# Altium integrated library fydp.IntLib: 10 symbols
Pins are listed as number, name and electrical type; pins without a type are passive.

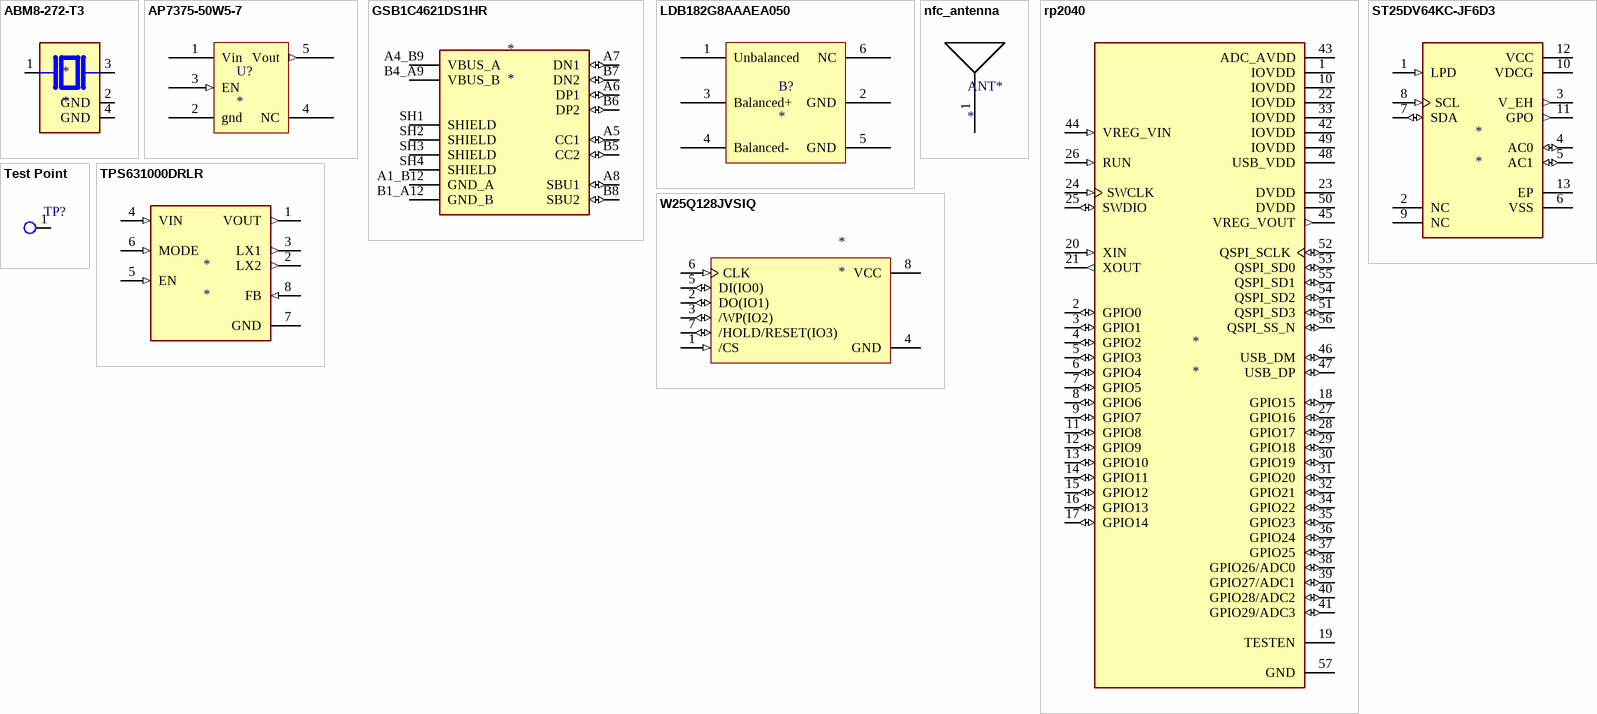
[diagram p0: symbols ABM8-272-T3 to W25Q128JVSIQ]

## ABM8-272-T3
designator *
footprint XTAL_ABM8-272-T3
pins: 1, 2 GND (power), 3, 4 GND (power)

## AP7375-50W5-7
designator U?
footprint DIODES SOT25 (SOT25, 5-Leads, Body 3.00x2.85mm, Pitch 0.95mm, IPC Medium Density)
pins: 1 Vin (power), 2 gnd (power), 3 EN (in), 4 NC, 5 Vout (out)

## GSB1C4621DS1HR
designator *
footprint AMPHENOL_GSB1C4621DS1HR
pins: A1_B12 GND_A (power), A4_B9 VBUS_A (power), A5 CC1 (io), A6 DP1 (io), A7 DN1 (io), A8 SBU1 (io), B1_A12 GND_B (power), B4_A9 VBUS_B (power), B5 CC2 (io), B6 DP2 (io), B7 DN2 (io), B8 SBU2 (io), SH1 SHIELD, SH2 SHIELD, SH3 SHIELD, SH4 SHIELD

## LDB182G8AAAEA050
designator B?
footprint Balum
pins: 1 Unbalanced, 2 GND, 3 Balanced+, 4 Balanced-, 5 GND, 6 NC

## nfc_antenna
designator ANT*
footprint nfc_antenna
pins: 1

## rp2040
designator *
footprint QFN40P700X700X90-57N
pins: 1 IOVDD (power), 2 GPIO0 (io), 3 GPIO1 (io), 4 GPIO2 (io), 5 GPIO3 (io), 6 GPIO4 (io), 7 GPIO5 (io), 8 GPIO6 (io), 9 GPIO7 (io), 10 IOVDD (power), 11 GPIO8 (io), 12 GPIO9 (io), 13 GPIO10 (io), 14 GPIO11 (io), 15 GPIO12 (io), 16 GPIO13 (io), 17 GPIO14 (io), 18 GPIO15 (io), 19 TESTEN, 20 XIN (in), 21 XOUT (out), 22 IOVDD (power), 23 DVDD (power), 24 SWCLK (in), 25 SWDIO (io), 26 RUN (in), 27 GPIO16 (io), 28 GPIO17 (io), 29 GPIO18 (io), 30 GPIO19 (io), 31 GPIO20 (io), 32 GPIO21 (io), 33 IOVDD (power), 34 GPIO22 (io), 35 GPIO23 (io), 36 GPIO24 (io), 37 GPIO25 (io), 38 GPIO26/ADC0 (io), 39 GPIO27/ADC1 (io), 40 GPIO28/ADC2 (io), 41 GPIO29/ADC3 (io), 42 IOVDD (power), 43 ADC_AVDD (power), 44 VREG_VIN (in), 45 VREG_VOUT (out), 46 USB_DM (io), 47 USB_DP (io), 48 USB_VDD (power), 49 IOVDD (power), 50 DVDD (power), 51 QSPI_SD3 (io), 52 QSPI_SCLK (io), 53 QSPI_SD0 (io), 54 QSPI_SD2 (io), 55 QSPI_SD1 (io), 56 QSPI_SS_N (io), 57 GND (power)

## ST25DV64KC-JF6D3
designator *
footprint PSON50P300X300X60-13N
pins: 1 LPD (in), 2 NC, 3 V_EH (out), 4 AC0 (io), 5 AC1 (io), 6 VSS (power), 7 SDA (io), 8 SCL (in), 9 NC, 10 VDCG (power), 11 GPO (out), 12 VCC (power), 13 EP

## Test Point
designator TP?  (value not drawn)
footprint test_point
pins: 1

## TPS631000DRLR
designator *
footprint SOT50P160X60-8N
pins: 1 VOUT (out), 2 LX2 (out), 3 LX1 (out), 4 VIN (in), 5 EN (in), 6 MODE (in), 7 GND (power), 8 FB (in)

## W25Q128JVSIQ
designator *
footprint SOIC127P790X216-8N
pins: 1 /CS (in), 2 DO(IO1) (io), 3 /WP(IO2) (io), 4 GND (power), 5 DI(IO0) (io), 6 CLK (in), 7 /HOLD/RESET(IO3) (io), 8 VCC (power)